# EAGLE library part J3011G21DNL (library ethernet)
CONN MAGJACK 1PORT 100 BASE-TX tested: YES (etherbotix)
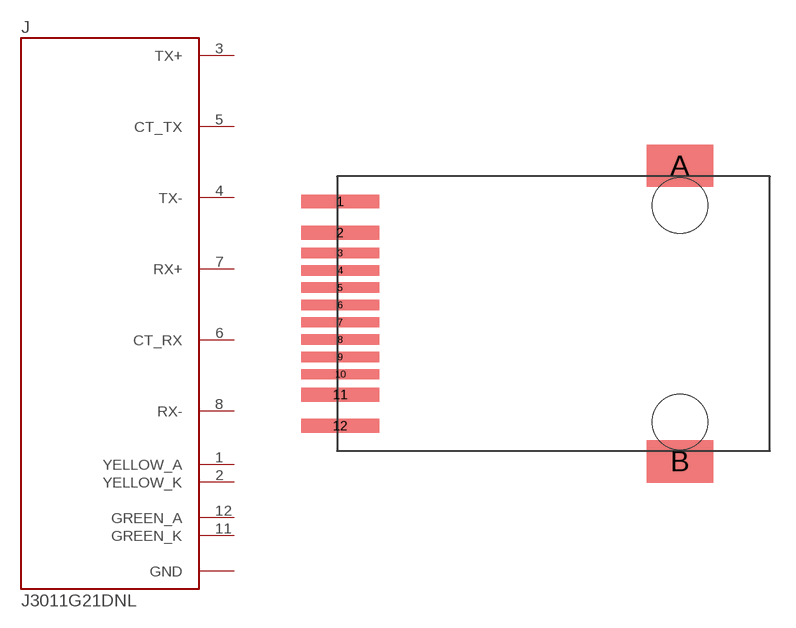
[diagram p0: symbol with the pads of J3; footprint J3]

Designator prefix J

## J3011G21DNL  [J3]
1  YELLOW_A
2  YELLOW_K
3  TX+
4  TX-
5  CT_TX
6  CT_RX
7  RX+
8  RX-
9  GND
10  GND
11  GREEN_K
12  GREEN_A
A  GND
B  GND

## Footprint J3 (pad centres in mm)
smd 4.597 x 0.813: 1 -19.926,6.579; 2 -19.926,4.75; 11 -19.926,-4.75; 12 -19.926,-6.579
smd 4.597 x 0.61: 3 -19.926,3.556; 4 -19.926,2.54; 5 -19.926,1.524; 6 -19.926,0.508; 7 -19.926,-0.508; 8 -19.926,-1.524; 9 -19.926,-2.54; 10 -19.926,-3.556
smd 3.912 x 2.489: A 0,8.674; B 0,-8.674
hole 3.251 at 0,-6.35
hole 3.251 at 0,6.35